# EAGLE library part SAMTEC-FC1-25-01-K (library gwu_mpnl_ucat_v10)
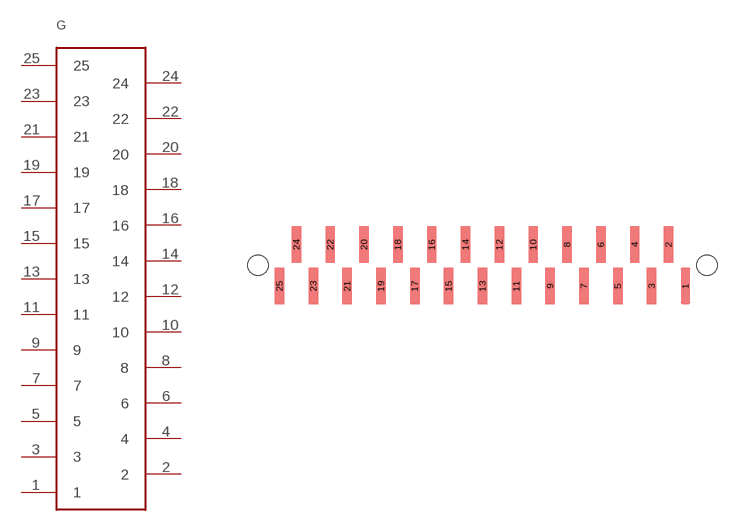
[diagram p26: symbol with the pads of SAMTEC-FC1-25-01-K; footprint SAMTEC-FC1-25-01-K]

Designator prefix G

## SAMTEC-FC1-25-01-K  [SAMTEC-FC1-25-01-K]
1  1
2  2
3  3
4  4
5  5
6  6
7  7
8  8
9  9
10  10
11  11
12  12
13  13
14  14
15  15
16  16
17  17
18  18
19  19
20  20
21  21
22  22
23  23
24  24
25  25

## Footprint SAMTEC-FC1-25-01-K (pad centres in mm)
smd 0.56 x 2.15: 1 12,-1.224; 2 11,1.224; 3 10,-1.224; 4 9,1.224; 5 8,-1.224; 6 7,1.224; 7 6,-1.224; 8 5,1.224; 9 4,-1.224; 10 3,1.224; 11 2,-1.224; 12 1,1.224; 13 0,-1.224; 14 -1,1.224; 15 -2,-1.224; 16 -3,1.224; 17 -4,-1.224; 18 -5,1.224; 19 -6,-1.224; 20 -7,1.224; 21 -8,-1.224; 22 -9,1.224; 23 -10,-1.224; 24 -11,1.224; 25 -12,-1.224
hole 1.19 at -13.275,0
hole 1.19 at 13.275,0